# Altium footprint library PCB.PcbLib: 24 footprints (part 1 of 2)
Each footprint in its own frame and in the unit in brackets; x right, y up, seen from the top. Pads: shape width x height; smd on the part's side, far side on the other; paste and mask are expansions set on the pad; w line width, h text height; cw(c..) or ccw(c..) is an arc to the next point about the centre after c.
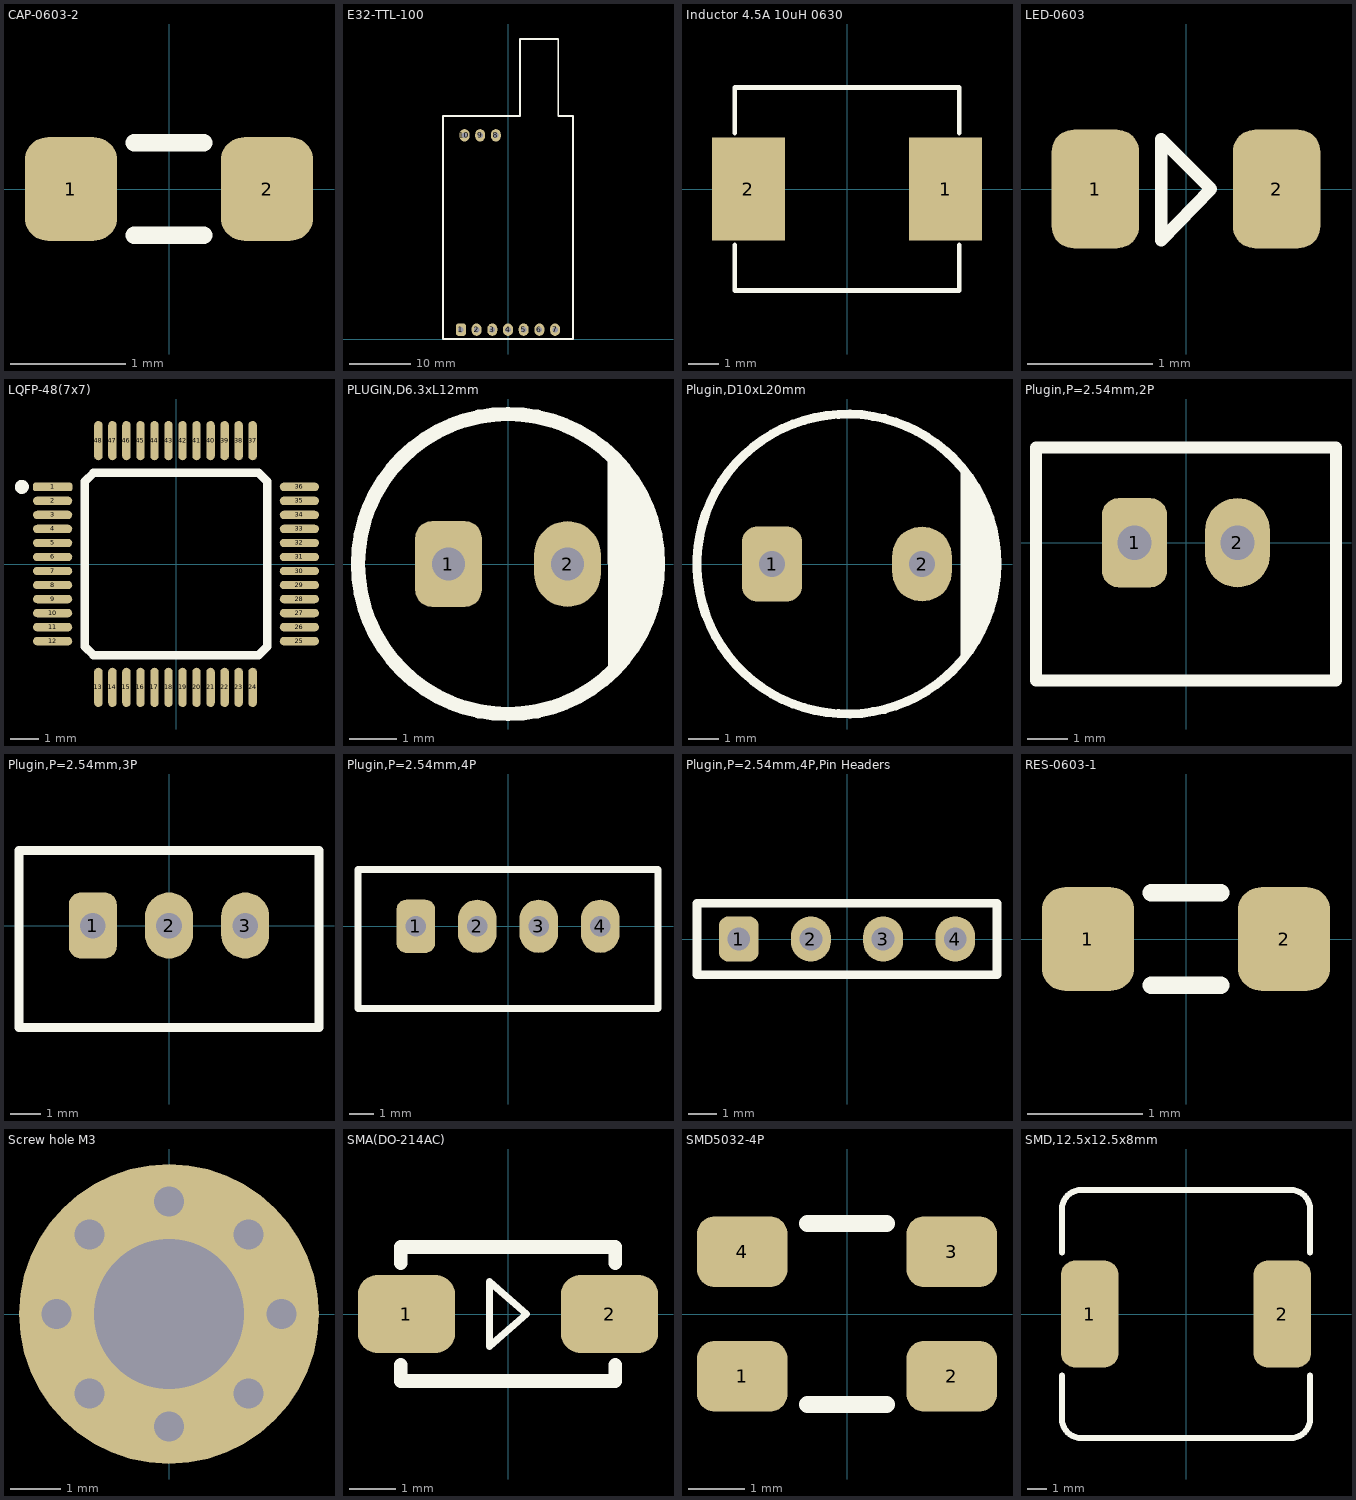
[diagram p0: the footprints below, top view; thin cyan lines are the x and y axes]

## CAP-0603-2 [mm]
pads (2):
  rrect50% 0.8x0.9 smd: 1(-0.85,0) 2(0.85,0)
Top Overlay:
  lines w0.15: -0.3,-0.4 0.3,-0.4 ; -0.3,0.4 0.3,0.4
3D body "C0603.stp": height 0.8, standoff 0, extent -0.8,-0.4 0.8,0.4

## E32-TTL-100 [mm]
pads (10):
  rrect50% 1.6x2 hole 0.9: 1(-7.62,1.52)
  oval 1.6x2 hole 0.9: 2(-5.08,1.52) 3(-2.54,1.52) 4(0,1.52) 5(2.54,1.52) 6(5.08,1.52) 7(7.62,1.52) 8(-1.97,33) 9(-4.51,33) 10(-7.05,33)
Top Overlay:
  lines w0.3: -10.55,0 10.55,0 10.55,36.1 8.15,36.1 8.15,48.6 1.95,48.6 1.95,36.1 -10.55,36.1 -10.55,0
3D body "E32-433T20DT[1].stp": height 8.1, standoff -5.52, extent -10.55,0 10.45,48.5

## Inductor 4.5A 10uH 0630 [mm] "4.5A 10uH ±20% 5.5A 68mΩ Molded Inductor SMD,7.3x6.6mm Fixed Inductors RoHS"
pads (2):
  rect 2.424x3.42 smd paste+0 mask+0.051: 1(3.278,0) 2(-3.278,0)
Top Overlay:
  lines w0.152: -3.726,-1.862 -3.726,-3.376 3.726,-3.376 3.726,-1.862 ; -3.726,1.862 -3.726,3.376 3.726,3.376 3.726,1.862
3D body "ASPI-0630LR.step": height 2.85, standoff -0.1, extent -3.75,-3.3 3.75,3.3

## LED-0603 [mm]
pads (2):
  rrect50% 0.7x0.95 smd paste-0.1: 1(-0.725,0) 2(0.725,0)
Top Overlay:
  lines w0.1: -0.2,-0.412 0.2,0 -0.2,0.4 -0.2,-0.4 ; -0.2,-0.4 -0.2,-0.4
3D body "User Library-LED SMD0603.STEP": height 0.68, standoff 0, extent -0.825,-0.35 0.825,0.375

## LQFP-48(7x7) [mm]
pads (48):
  rrect50% 1.4x0.3 smd: 1(-4.4,2.75)
  oval 1.4x0.3 smd: 2(-4.4,2.25) 3(-4.4,1.75) 4(-4.4,1.25) 5(-4.4,0.75) 6(-4.4,0.25) 7(-4.4,-0.25) 8(-4.4,-0.75) 9(-4.4,-1.25) 10(-4.4,-1.75) 11(-4.4,-2.25) 12(-4.4,-2.75) 25(4.4,-2.75) 26(4.4,-2.25) 27(4.4,-1.75) 28(4.4,-1.25) 29(4.4,-0.75) 30(4.4,-0.25) 31(4.4,0.25) 32(4.4,0.75) 33(4.4,1.25) 34(4.4,1.75) 35(4.4,2.25) 36(4.4,2.75)
  oval 0.3x1.4 smd: 13(-2.768,-4.4) 14(-2.268,-4.4) 15(-1.768,-4.4) 16(-1.268,-4.4) 17(-0.768,-4.4) 18(-0.268,-4.4) 19(0.232,-4.4) 20(0.732,-4.4) 21(1.232,-4.4) 22(1.732,-4.4) 23(2.232,-4.4) 24(2.732,-4.4) 37(2.732,4.4) 38(2.232,4.4) 39(1.732,4.4) 40(1.232,4.4) 41(0.732,4.4) 42(0.232,4.4) 43(-0.268,4.4) 44(-0.768,4.4) 45(-1.268,4.4) 46(-1.768,4.4) 47(-2.268,4.4) 48(-2.768,4.4)
Top Overlay:
  circle w0.3: c-5.5,2.75 r0.1
  lines w0.3: -3.25,-2.95 -2.95,-3.25 2.95,-3.25 3.25,-2.95 3.25,2.95 2.95,3.25 -2.95,3.25 -3.25,2.95 -3.25,-2.95
3D body "User Library-LQFP48_Grid_0_5.STEP": height 1.6, standoff 0, extent -4.5,-4.5 4.5,4.5

## PLUGIN,D6.3xL12mm [mm]
pads (2):
  rrect50% 1.4x1.8 hole 0.7: 1(-1.25,0)
  oval 1.4x1.8 hole 0.7: 2(1.25,0)
Top Overlay:
  circle w0.3: c0,0 r3.15
  region: 2.1,2.348 2.1,-2.348 2.224,-2.237 2.446,-1.992 2.642,-1.724 2.808,-1.437 2.943,-1.135 3.046,-0.82 3.115,-0.495 3.15,-0.166 3.15,0 3.15,0.166 3.115,0.495 3.046,0.819 2.943,1.135 2.808,1.437 2.642,1.724 2.446,1.992 2.224,2.237
3D body "Plugin,D6.3xL12mm.stp": height 12, standoff -3.57, extent -3.15,-3.148 3.15,3.148

## Plugin,D10xL20mm [mm]
pads (2):
  rrect50% 2x2.5 hole 0.85 mask+0.2: 1(-2.5,0)
  oval 2x2.5 hole 0.85 mask+0.2: 2(2.5,0)
Top Overlay:
  circle w0.3: c0,0 r5
  region: 3.8,3.25 3.8,-3.25 3.944,-3.081 4.201,-2.721 4.424,-2.339 4.614,-1.94 4.767,-1.525 4.883,-1.098 4.961,-0.662 5,-0.221 5,0 5,0.221 4.961,0.662 4.883,1.098 4.767,1.524 4.614,1.94 4.424,2.339 4.201,2.721 3.944,3.081
3D body "User Library-Cap-EL(10x20-5).STEP": height 20, standoff -3.3, extent -5,-5 5.002,5

## Plugin,P=2.54mm,2P [mm]
pads (2):
  rrect50% 1.6x2.2 hole 0.85 mask+0.1: 1(-1.27,0)
  oval 1.6x2.2 hole 0.85 mask+0.1: 2(1.27,0)
Top Overlay:
  lines w0.3: -3.7,-3.4 -3.7,2.35 3.7,2.35 3.7,-3.4 -3.7,-3.4
3D body "JST 2pin.stp": height 3.05, standoff -7.25, extent -3.715,-3.4 3.715,2.328

## Plugin,P=2.54mm,3P [mm]
pads (3):
  rrect50% 1.6x2.2 hole 0.85 mask+0.1: 1(-2.54,0)
  oval 1.6x2.2 hole 0.85 mask+0.1: 2(0,0) 3(2.54,0)
Top Overlay:
  lines w0.3: -5,-3.4 5,-3.4 5,2.5 -5,2.5 -5,-3.4
3D body "JST 2.54X3P.step": height 7, standoff -3, extent -5.04,-3.3 5.04,2.4

## Plugin,P=2.54mm,4P [mm]
pads (4):
  rrect50% 1.6x2.2 hole 0.85 mask+0.1: 1(-3.81,0)
  oval 1.6x2.2 hole 0.85 mask+0.1: 2(-1.27,0) 3(1.27,0) 4(3.81,0)
Top Overlay:
  lines w0.3: -6.2,-3.4 6.2,-3.4 6.2,2.35 -6.2,2.35 -6.2,-3.4
3D body "User Library-XH2_54-4P_step.STEP": height 7, standoff -1.8, extent -6.25,-3.4 6.25,2.4

## Plugin,P=2.54mm,4P,Pin Headers [mm]
pads (4):
  rrect50% 1.4x1.6 hole 0.8 mask+0.15: 1(-3.81,0)
  oval 1.4x1.6 hole 0.8 mask+0.15: 2(-1.27,0) 3(1.27,0) 4(3.81,0)
Top Overlay:
  lines w0.3: -5.28,-1.25 -5.28,1.25 5.28,1.25 5.28,-1.25 -5.28,-1.25
3D body "4-Pin Header - Male - 2.54mm.step": height 8.89, standoff -3.05, extent -5.08,-1.29 5.08,1.25

## RES-0603-1 [mm]
pads (2):
  rrect50% 0.8x0.9 smd: 1(-0.85,0) 2(0.85,0)
Top Overlay:
  lines w0.15: -0.3,-0.4 0.3,-0.4 ; -0.3,0.4 0.3,0.4
3D body "ERJ-U03F6800V.STEP": height 0.45, standoff 0, extent -0.8,-0.4 0.8,0.4

## Screw hole M3 [mm]
pads (9):
  round 0.6 hole 0.6: ""(-2.25,0) ""(-1.591,1.591) ""(-1.591,-1.591) ""(0,-2.25) ""(0,2.25) ""(1.591,1.591) ""(1.591,-1.591) ""(2.25,0)
  round 6 hole 3 mask+0.1: ""(0,0)

## SMA(DO-214AC) [mm]
pads (2):
  rrect50% 2.1x1.7 smd: 1(-2.2,0) 2(2.2,0)
Top Overlay:
  lines w0.15: -0.4,-0.7 0.4,0 -0.4,0.7 -0.4,-0.7
  lines w0.3: -2.325,-1.104 -2.325,-1.45 2.325,-1.45 2.325,-1.104 ; -2.325,1.104 -2.325,1.45 2.325,1.45 2.325,1.104
3D body "SMA(DO-214AC).STEP": height 2.44, standoff 0.04, extent -2.6,-1.3 2.6,1.3

## SMD5032-4P [mm]
pads (4):
  rrect50% 1.6x1.25 smd: 1(-1.85,-1.1) 2(1.85,-1.1) 3(1.85,1.1) 4(-1.85,1.1)
Top Overlay:
  lines w0.3: -0.7,-1.6 0.7,-1.6 ; -0.7,1.6 0.7,1.6
3D body "step_temp.STEP": height 0.85, standoff 0, extent -2.5,-1.6 2.5,1.6

## SMD,12.5x12.5x8mm [mm]
pads (2):
  rrect50% 2.9x5.4 smd: 1(-4.85,0) 2(4.85,0)
Top Overlay:
  lines w0.3: -6.25,-3.1 -6.25,-5.25 ccw(c-5.25,-5.25) -5.25,-6.25 5.25,-6.25 ccw(c5.25,-5.25) 6.25,-5.25 6.25,-3.1 ; -6.25,3.1 -6.25,5.25 cw(c-5.25,5.25) -5.25,6.25 5.25,6.25 cw(c5.25,5.25) 6.25,5.25 6.25,3.1
3D body "SMD,12.5x12.5mm.stp": height 7.5, standoff 0, extent -6.25,-6.25 6.25,6.25